# Altium footprint library FERRITES.PcbLib: 2 footprints
Each footprint in its own frame and in the unit in brackets; x right, y up, seen from the top. Pads: shape width x height; smd on the part's side, far side on the other; paste and mask are expansions set on the pad; w line width, h text height; cw(c..) or ccw(c..) is an arc to the next point about the centre after c.
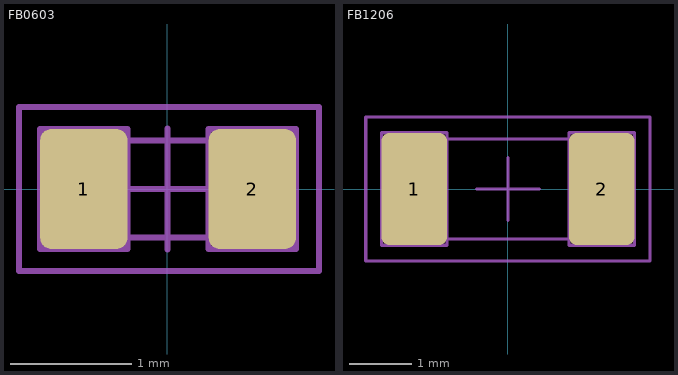
[diagram p0: the footprints below, top view; thin cyan lines are the x and y axes]

## FB0603 [mm] "FERRITE BEAD 0603 (1608)"
height 0.95
pads (2):
  rrect25% 0.72x0.99 smd mask+0.075: 1(-0.69,0) 2(0.7,0)
Top Courtyard:
  lines w0.05: -0.5,0 0,0 ; 0,-0.5 0,0 ; 0,0.5 0,0 ; 0.5,0 0,0 ; -1.225,-0.675 -1.225,0.675 1.25,0.675 1.25,-0.675 -1.225,-0.675
Top Assembly:
  lines w0.05: -1.05,-0.495 -0.33,-0.495 -0.33,0.495 -1.05,0.495 -1.05,-0.495 ; -0.8,-0.4 0.8,-0.4 0.8,0.4 -0.8,0.4 -0.8,-0.4 ; 0.34,-0.495 0.34,0.495 1.06,0.495 1.06,-0.495 0.34,-0.495
3D body "Chip Inductor 0603.step": height 0.95, standoff 0, extent -0.8,-0.4 0.8,0.4

## FB1206 [mm] "FERRITE BEAD, CHIP 1206 (3216)"
height 1.3
pads (2):
  rrect25% 1.05x1.8 smd paste+0 mask+0.075: 1(-1.5,0) 2(1.5,0)
Top Courtyard:
  lines w0.05: -0.5,0 0,0 ; 0,-0.5 0,0 ; 0,0.5 0,0 ; 0.5,0 0,0 ; -2.275,-1.15 2.275,-1.15 2.275,1.15 -2.275,1.15 -2.275,-1.15
Top Assembly:
  lines w0.05: -2.025,-0.9 -0.975,-0.9 -0.975,0.9 -2.025,0.9 -2.025,-0.9 ; -1.6,-0.8 1.6,-0.8 1.6,0.8 -1.6,0.8 -1.6,-0.8 ; 0.975,-0.9 2.025,-0.9 2.025,0.9 0.975,0.9 0.975,-0.9
3D body "Chip Inductor 3216.STEP": height 1.3, standoff 0, extent -1.6,-0.8 1.6,0.8